# EAGLE library part IRLML5203 (library trainlib)
HEXFET P-Channel Power MOSFET
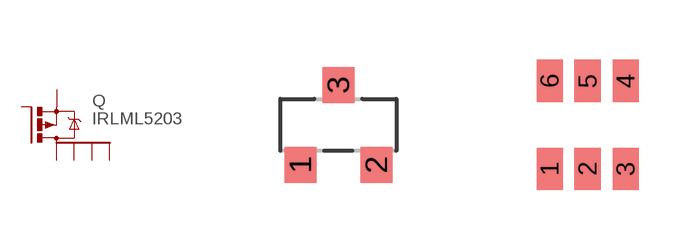
[diagram p2: symbol with the pads of MICRO3; footprints MICRO3, MICRO6]

Designator prefix Q

## IRLML5203  [MICRO3]
1  G  pas
2  S  pas
3  D  pas

## IRLML5203IRLML5703  [MICRO6]
1  D  pas
2  D  pas
3  G  pas
4  S  pas
5  D  pas
6  D  pas

## Footprint MICRO3 (pad centres in mm)
smd 0.8 x 0.9: 1 -0.95,-1; 2 0.95,-1; 3 0,1

## Footprint MICRO6 (pad centres in mm)
smd 0.65 x 1.06: 1 -0.95,-1.1; 2 0,-1.1; 3 0.95,-1.1; 4 0.95,1.1; 5 0,1.1; 6 -0.95,1.1